# EAGLE library part HLW8032 (library ds_ic_peripherals)
Single-phase metering IC
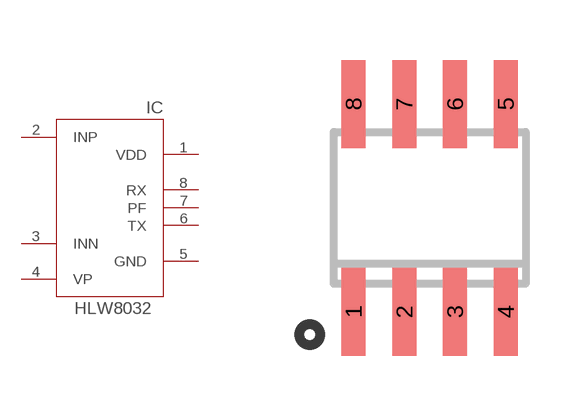
[diagram p12: symbol with the pads of SO8; footprint SO8]

Designator prefix IC

## HLW8032 (DATASHEET: https://w2.electrodragon.com/Chip-cn-dat/HLW-dat/HLW8032-dat/HLW8032.pdf; DESCRIPTION: SOP-8 Energy Metering ROHS; HQ_PART: MD0751024; LCSC_PART: C128023; MANUFACTURER: Hiliwei Tech; MPN: HLW8032; ROHS: YES; VALUE: HLW8032)  [SO8]
1  VDD  pwr
2  INP  in
3  INN  in
4  VP  in
5  GND  pwr
6  TX
7  PF
8  RX

## Footprint SO8 (pad centres in mm)
SMALL OUTLINE INTEGRATED CIRCUIT
smd 0.6 x 2.2: 1 -1.905,-2.6; 2 -0.635,-2.6; 3 0.635,-2.6; 4 1.905,-2.6; 5 1.905,2.6; 6 0.635,2.6; 7 -0.635,2.6; 8 -1.905,2.6